# Altium footprint library Common.PcbLib: 69 footprints (part 2 of 5)
Each footprint in its own frame and in the unit in brackets; x right, y up, seen from the top. Pads: shape width x height; smd on the part's side, far side on the other; paste and mask are expansions set on the pad; w line width, h text height; cw(c..) or ccw(c..) is an arc to the next point about the centre after c.
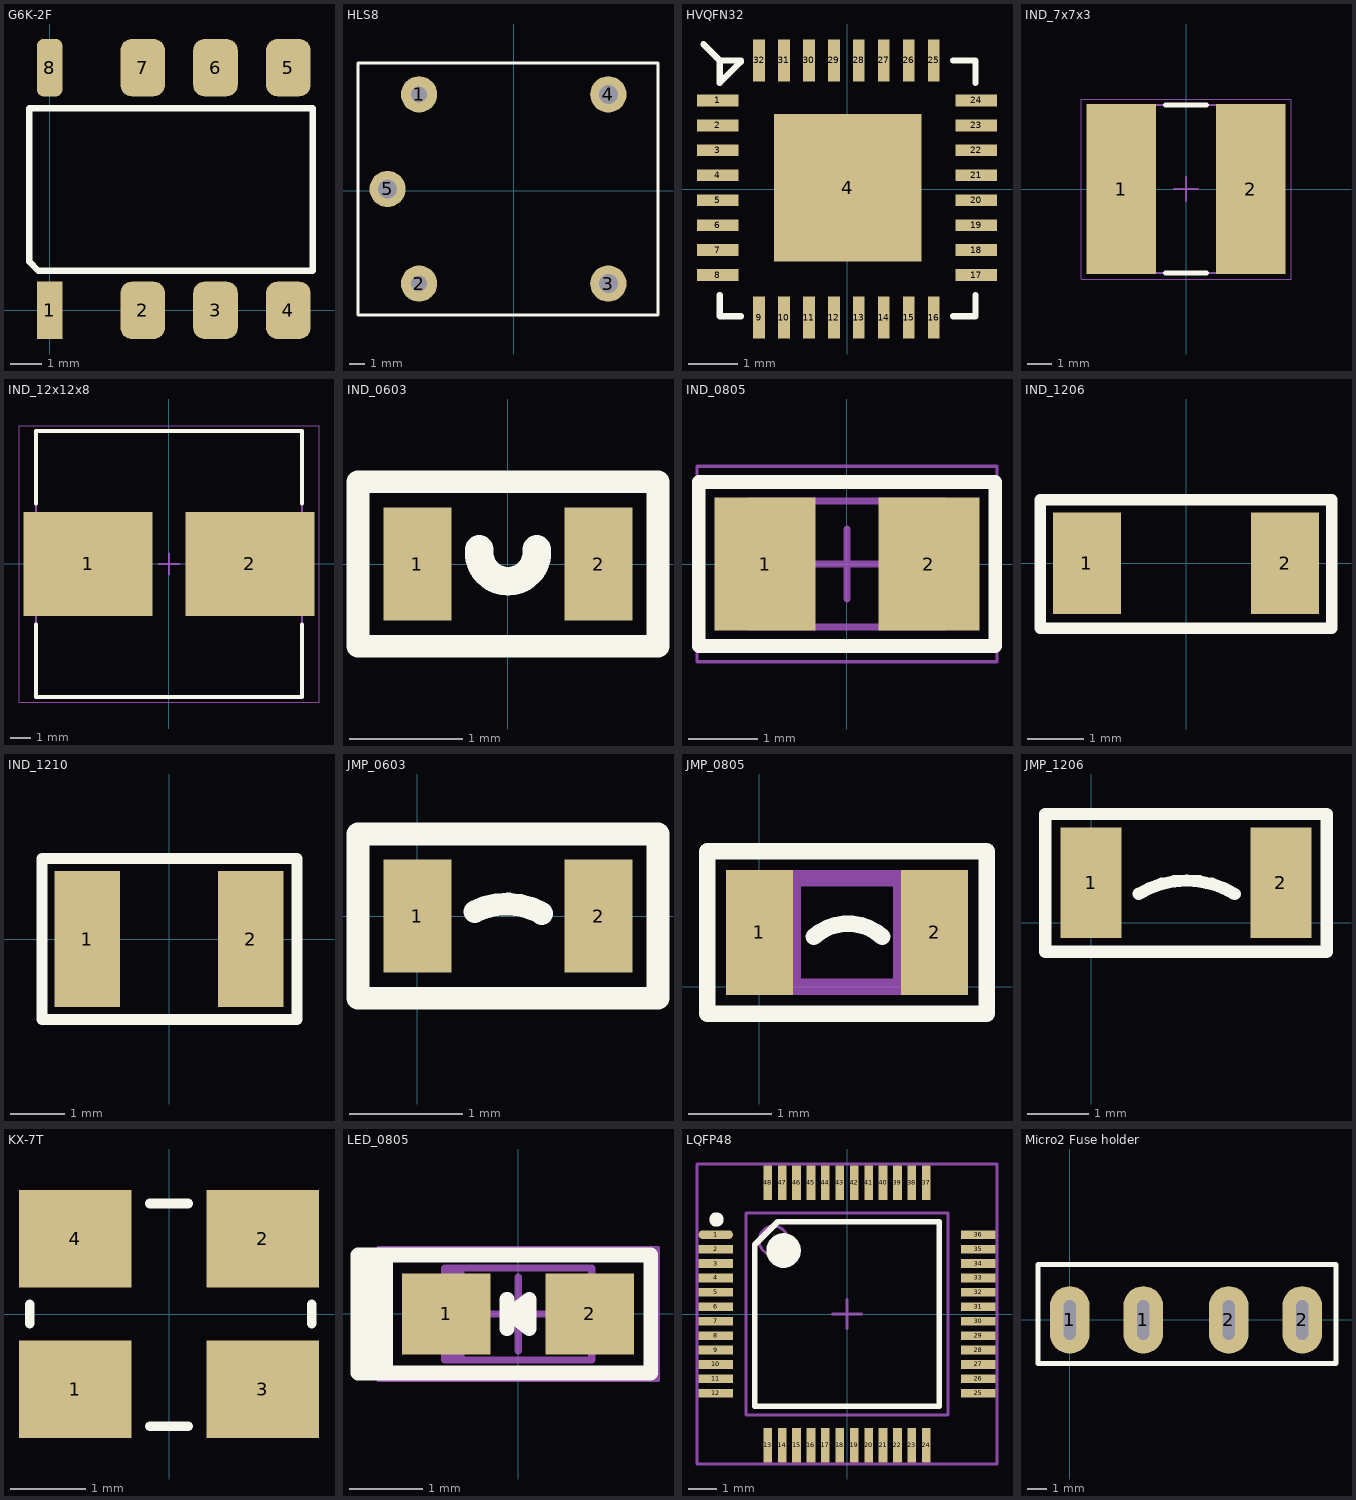
[diagram p1: the footprints below, top view; thin cyan lines are the x and y axes]

## G6K-2F [mm]
pads (8):
  rect 0.8x1.8 smd mask+0.102: 1(0,0)
  rrect50% 1.4x1.8 smd mask+0.102: 2(2.921,0) 3(5.207,0) 4(7.493,0) 5(7.493,7.62) 6(5.207,7.62) 7(2.921,7.62)
  rrect50% 0.8x1.8 smd mask+0.102: 8(0,7.62)
Top Overlay:
  lines w0.203: -0.635,1.524 -0.356,1.245 8.255,1.245 8.255,6.35 -0.635,6.35 -0.635,1.524
3D body: height 5.2, standoff 0, extent -1.114,0.002 8.886,7.822

## HLS8 [mm] "HLS8 Relay"
height 15
pads (5):
  round 2.3 hole 1: 1(-6,6.1) 2(-6,-5.9)
  round 2.3 hole 1.2: 3(6,-5.9) 4(6,6.1) 5(-8,0.1)
Top Overlay:
  lines w0.2: -9.874,-7.901 9.15,-7.901 9.15,-7.9 9.15,8.1 -9.874,8.1 -9.874,-7.901
3D body: height 15.1, standoff -1.9, extent -11,-7.95 9,8.05

## HVQFN32 [mm]
height 0.8
pads (33):
  rect 0.85x0.24 smd: 1(-2.629,1.803) 2(-2.629,1.295) 3(-2.629,0.787) 4(-2.629,0.279) 5(-2.629,-0.229) 6(-2.629,-0.737) 7(-2.629,-1.245) 8(-2.629,-1.753) 17(2.629,-1.753) 18(2.629,-1.245) 19(2.629,-0.737) 20(2.629,-0.229) 21(2.629,0.279) 22(2.629,0.787) 23(2.629,1.295) 24(2.629,1.803)
  rect 3x3 smd: 4(0.013,0.025)
  rect 0.24x0.85 smd: 9(-1.791,-2.616) 10(-1.283,-2.616) 11(-0.775,-2.616) 12(-0.267,-2.616) 13(0.241,-2.616) 14(0.749,-2.616) 15(1.257,-2.616) 16(1.765,-2.616) 25(1.765,2.616) 26(1.257,2.616) 27(0.749,2.616) 28(0.241,2.616) 29(-0.267,2.616) 30(-0.775,2.616) 31(-1.283,2.616) 32(-1.791,2.616)
Top Overlay:
  rectangle: -2.591,2.591 -2.159,2.616
  lines w0.127: -2.921,2.946 -2.591,2.616 ; -2.591,-2.159 -2.591,-2.591 -2.159,-2.591 ; -2.565,2.616 -2.591,2.616 ; 2.159,-2.591 2.616,-2.591 2.616,-2.159 ; 2.159,2.616 2.616,2.616 2.616,2.159 ; -2.591,2.616 -2.159,2.616 -2.159,2.591 -2.591,2.159 -2.591,2.616

## IND_7x7x3 [mm] "Precision Wire Wound Inductor, 2-Leads, Body 7.00x7.00mm, IPC Medium Density"
height 3
pads (2):
  rect 2.9x7.1 smd: 1(-2.7,0) 2(2.7,0)
Top Overlay:
  lines w0.2: -0.85,-3.5 0.85,-3.5 ; -0.85,3.5 0.85,3.5
Mechanical 13:
  lines w0.1: -3.5,-3.5 3.5,-3.5 3.5,3.5 -3.5,3.5 -3.5,-3.5
Mechanical 15:
  lines w0.05: -4.375,-3.75 4.375,-3.75 4.375,3.75 -4.375,3.75 -4.375,-3.75
  lines w0.1: -0.5,0 0.5,0 ; 0,-0.5 0,0.5
3D body: height 3, standoff 0, extent -3.5,-3.5 3.5,3.5

## IND_12x12x8 [mm]
height 8
pads (2):
  rect 6.3x5.1 smd: 1(-3.95,0) 2(3.95,0)
Top Overlay:
  lines w0.2: -6.5,-2.95 -6.5,-6.5 6.5,-6.5 6.5,-2.95 ; -6.5,2.95 -6.5,6.5 6.5,6.5 6.5,2.95
Mechanical 13:
  lines w0.1: -6.5,-6.5 6.5,-6.5 6.5,6.5 -6.5,6.5 -6.5,-6.5
Mechanical 15:
  lines w0.05: -7.325,-6.75 7.325,-6.75 7.325,6.75 -7.325,6.75 -7.325,-6.75
  lines w0.1: -0.5,0 0.5,0 ; 0,-0.5 0,0.5
3D body: height 8, standoff 0, extent -6.25,-6.25 6.25,6.25

## IND_0603 [mm] "SMD Inductance 0603"
height 0.5
pads (2):
  rect 0.6x1 smd: 1(-0.8,0) 2(0.8,0)
Top Overlay:
  lines w0.2: -1.325,-0.725 1.325,-0.725 1.325,0.725 -1.325,0.725 -1.325,-0.725
  lines w0.254: -0.254,0.127 ccw(c0,0.103) 0.254,0.127

## IND_0805 [mm] "Molded Inductor, 2-Leads, Body 2.60x2.00mm, IPC Medium Density"
height 1.8
pads (2):
  rect 1.45x1.9 smd: 1(-1.175,0) 2(1.175,0)
Top Overlay:
  lines w0.2: -2.125,-1.175 2.125,-1.175 2.125,1.175 -2.125,1.175 -2.125,-1.175
Mechanical 13:
  lines w0.1: -0.7,-0.9 -0.7,0.9 ; 0.7,-0.9 0.7,0.9 ; -1.4,-0.9 1.4,-0.9 1.4,0.9 -1.4,0.9 -1.4,-0.9
Mechanical 15:
  lines w0.05: -2.15,-1.4 2.15,-1.4 2.15,1.4 -2.15,1.4 -2.15,-1.4
  lines w0.1: -0.5,0 0.5,0 ; 0,-0.5 0,0.5
3D body: height 1.8, standoff 0, extent -1.399,-0.899 -0.701,0.899
3D body: height 1.8, standoff 0, extent -0.699,-0.899 0.699,0.899
3D body: height 1.8, standoff 0, extent 0.701,-0.899 1.399,0.899

## IND_1206 [mm] "Inductor 1206"
height 1.5
pads (2):
  rect 1.2x1.8 smd: 1(-1.75,0) 2(1.75,0)
Top Overlay:
  lines w0.2: -2.575,-1.15 -2.575,1.125 2.575,1.125 2.575,-1.15 -2.575,-1.15

## IND_1210 [mm]
height 2
pads (2):
  rect 1.2x2.5 smd: 1(-1.5,0) 2(1.5,0)
Top Overlay:
  lines w0.2: -2.325,-1.475 2.35,-1.475 2.35,1.475 -2.325,1.475 -2.325,-1.475

## JMP_0603 [mm] "Jumper"
height 0.5
pads (2):
  rect 0.6x1 smd: 1(0,0) 2(1.6,0)
Top Overlay:
  lines w0.2: 0.506,0.038 cw(c0.787,-0.513) 1.098,0.022 ; -0.525,-0.725 -0.525,0.725 2.125,0.725 2.125,-0.725 -0.525,-0.725

## JMP_0805 [mm] "Jumper"
height 0.5
pads (2):
  rect 0.8x1.5 smd: 1(0,0.65) 2(2.1,0.65)
Top Overlay:
  lines w0.2: 0.651,0.599 cw(c1.062,0.138) 1.474,0.599 ; -0.625,-0.325 -0.625,1.625 2.725,1.625 2.725,-0.325 -0.625,-0.325
Mechanical 1:
  lines w0.2: 1.7,0 1.7,1.3 0.4,1.3 0.4,0 0,0 ; 0,0 0,1.3 2.1,1.3 2.1,0 0,0
3D body: height 0.5, standoff 0, extent 1.701,0.001 2.099,1.299
3D body: height 0.5, standoff 0, extent 0.401,0.001 1.699,1.299
3D body: height 0.5, standoff 0, extent 0.001,0.001 0.399,1.299

## JMP_1206 [mm] "Jumper"
height 0.6
pads (2):
  rect 1x1.8 smd: 1(0,0.65) 2(3.1,0.65)
Top Overlay:
  lines w0.2: 0.779,0.469 cw(c1.561,-0.811) 2.345,0.468 ; -0.75,-0.475 3.85,-0.475 3.85,1.775 -0.75,1.775 -0.75,-0.475
3D body: height 0.6, standoff 0, extent 0.001,0.001 0.524,1.274
3D body: height 0.6, standoff 0, extent 2.576,0.001 3.124,1.274
3D body: height 0.6, standoff 0, extent 0.526,0.001 2.574,1.274

## KX-7T [mm]
pads (4):
  rect 1.5x1.3 smd: 1(-1.25,-1) 2(1.25,1) 3(1.25,-1) 4(-1.25,1)
Top Overlay:
  lines w0.127: -1.854,-0.127 -1.854,0.127 ; -0.254,-1.499 0.254,-1.499 ; -0.254,1.473 0.254,1.473 ; 1.905,-0.127 1.905,0.127
3D body: height 0.81, standoff 0, extent -1.607,-1.25 1.607,1.25

## LED_0805 [mm]
height 1
pads (2):
  rect 1.2x1.1 smd: 1(-0.975,0) 2(0.975,0)
Top Overlay:
  lines w0.2: -2,-0.8 -2,0.8 ; -1.8,-0.8 -1.8,0.8 ; -0.15,-0.2 -0.15,0.2 ; -2.175,-0.8 -2.175,0.8 1.8,0.8 1.8,-0.8 -2.175,-0.8 ; -0.1,0 0.15,-0.2 0.15,0.2 -0.1,0
Mechanical 13:
  rectangle: -1,-0.625 -0.731,0.625
  lines w0.1: -1,-0.625 -1,0.625 1,0.625 1,-0.625 -1,-0.625
Mechanical 15:
  lines w0.05: -1.9,-0.9 -1.9,0.9 1.9,0.9 1.9,-0.9 -1.9,-0.9
  lines w0.1: -0.5,0 0.5,0 ; 0,-0.5 0,0.5
3D body: height 1, standoff 0, extent -1,-0.625 1,0.625

## LQFP48 [mm] "LQFP, 48-Leads, Body 9.2x9.2mm (max), Pitch 0.50mm"
height 1.6
pads (48):
  oval 1.2x0.3 smd mask+0.01: 1(-4.55,2.75)
  rect 1.2x0.3 smd mask+0.01: 2(-4.55,2.25) 3(-4.55,1.75) 4(-4.55,1.25) 5(-4.55,0.75) 6(-4.55,0.25) 7(-4.55,-0.25) 8(-4.55,-0.75) 9(-4.55,-1.25) 10(-4.55,-1.75) 11(-4.55,-2.25) 12(-4.55,-2.75) 25(4.55,-2.75) 26(4.55,-2.25) 27(4.55,-1.75) 28(4.55,-1.25) 29(4.55,-0.75) 30(4.55,-0.25) 31(4.55,0.25) 32(4.55,0.75) 33(4.55,1.25) 34(4.55,1.75) 35(4.55,2.25) 36(4.55,2.75)
  rect 0.3x1.2 smd mask+0.01: 13(-2.75,-4.55) 14(-2.25,-4.55) 15(-1.75,-4.55) 16(-1.25,-4.55) 17(-0.75,-4.55) 18(-0.25,-4.55) 19(0.25,-4.55) 20(0.75,-4.55) 21(1.25,-4.55) 22(1.75,-4.55) 23(2.25,-4.55) 24(2.75,-4.55) 37(2.75,4.55) 38(2.25,4.55) 39(1.75,4.55) 40(1.25,4.55) 41(0.75,4.55) 42(0.25,4.55) 43(-0.25,4.55) 44(-0.75,4.55) 45(-1.25,4.55) 46(-1.75,4.55) 47(-2.25,4.55) 48(-2.75,4.55)
Top Overlay:
  circle w0.25: c-4.525,3.275 r0.125
  circle w0.6: c-2.2,2.2 r0.3
  lines w0.2: -3.2,-3.2 -3.2,2.4 -2.4,3.2 3.2,3.2 3.2,-3.2 -3.2,-3.2
Mechanical 13:
  circle w0.1: c-2.55,2.55 r0.5
  lines w0.1: -3.5,-3.5 -3.5,3.5 3.5,3.5 3.5,-3.5 -3.5,-3.5
Mechanical 15:
  lines w0.1: -0.5,0 0.5,0 ; 0,-0.5 0,0.5 ; -5.2,-5.2 -5.2,5.2 5.2,5.2 5.2,-5.2 -5.2,-5.2
3D body: height 1.5, standoff 0, extent -4.5,-4.5 4.5,4.5

## Micro2 Fuse holder [mm]
height 9
pads (4):
  oval 2x3.4 hole 0.6 slot 2 at 90 deg: 1(0,0) 1(3.7,0) 2(8,0) 2(11.7,0)
Top Overlay:
  lines w0.254: -1.6,-2.2 13.4,-2.2 13.4,2.8 -1.6,2.8 -1.6,-2.2
3D body: height 17.57, standoff -2.7, extent -1.5,-2.1 13.3,2.7